# Altium schematic symbol library INA228AIDGSR.SchLib: 1 symbol
Pins are listed as number, name and electrical type; pins without a type are passive.

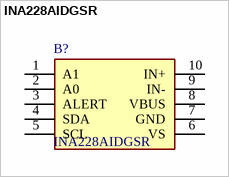
[diagram p0: symbol INA228AIDGSR]

## INA228AIDGSR
designator B?
Current & Power Monitors & Regulators 85-V, 20-bit, ultra-precise, I2C output current/voltage/power/energy/charge monitor with alert</p; Manufacturer_Name: Texas Instruments; Geometry.Height: 1.1mm; Mouser Part Number: 595-INA228AIDGSR; Mouser Price/Stock: https://www.mouser.co.uk/ProductDetail/Texas-Instruments/INA228AIDGSR?qs=pUKx8fyJudB2qGvt%252BmXPAg%3D%3D; Manufacturer_Part_Number: INA228AIDGSR; Datasheet Link: https://www.ti.com/general/docs/suppproductinfo.tsp?distId=10&gotoUrl=http%3A%2F%2Fwww.ti.com%2Flit%2Fgpn%2Fina228
footprint SOP50P490X110-10N
pins: 1 A1, 2 A0, 3 ALERT, 4 SDA, 5 SCL, 6 VS, 7 GND, 8 VBUS, 9 IN-, 10 IN+